# EAGLE library part LMR16006X (library teensylu)
Texas Instruments LMR16006XDDCT
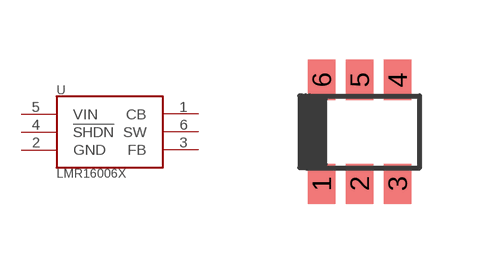
[diagram p3: symbol with the pads of TSOT6; footprint TSOT6]

Designator prefix U

## LMR16006X (CURRENT: 600mA; MANUFACTURER: Texas Instruments; MANUFACTURER_PART_NUMBER: LMR16006XDDCT)  [TSOT6]
1  CB  pas
2  GND  sup
3  FB  pas
4  !SHDN  in
5  VIN  pwr
6  SW  pas

## Footprint TSOT6 (pad centres in mm)
smd 0.69 x 1: 1 -0.95,-1.3; 2 0,-1.3; 3 0.95,-1.3; 4 0.95,1.3; 5 0,1.3; 6 -0.95,1.3